# Altium schematic symbol library Transformers.SchLib: 9 symbols
Pins are listed as number, name and electrical type; pins without a type are passive.

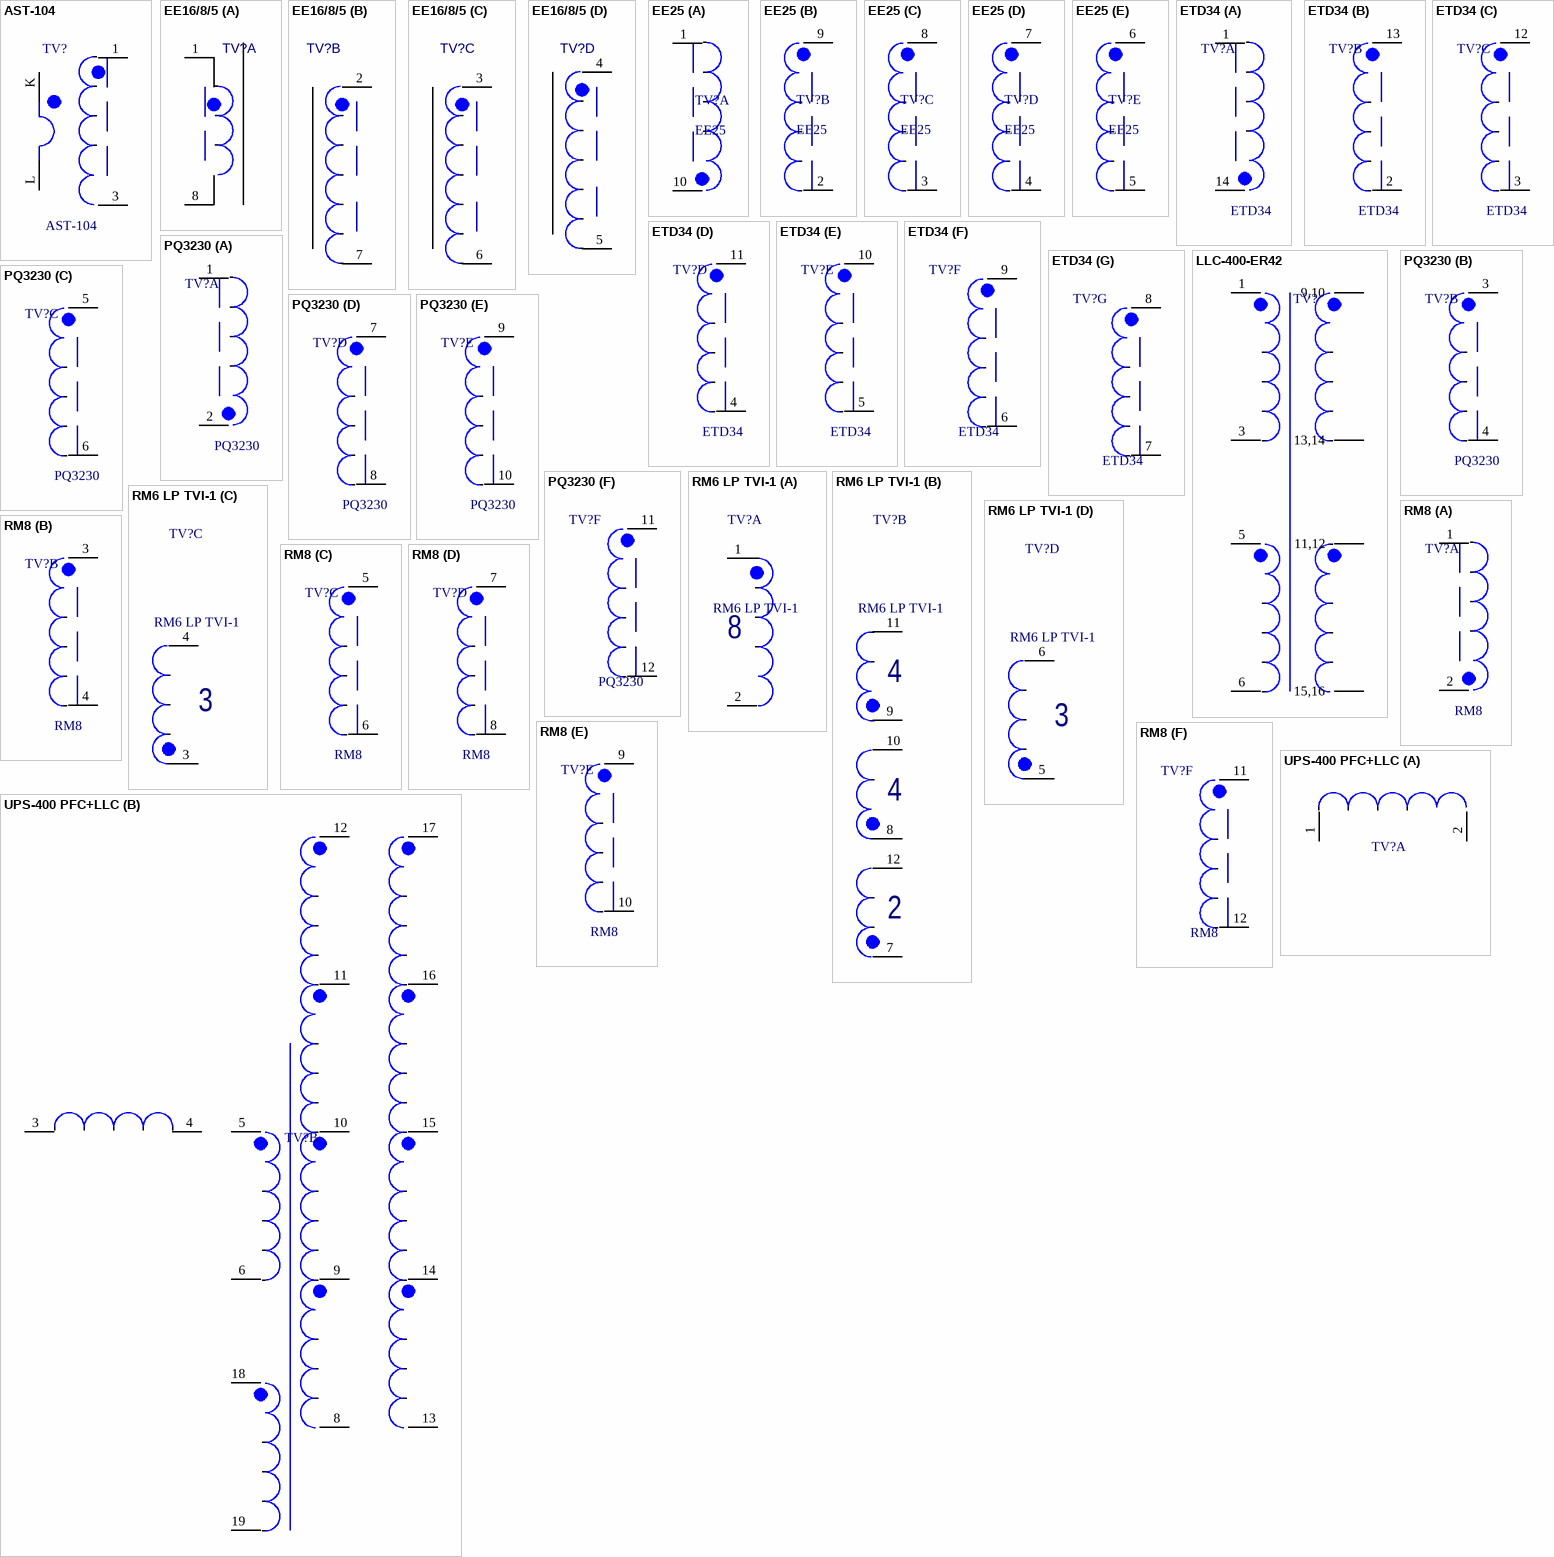
[diagram p0: symbols AST-104 to UPS-400 PFC+LLC]

## AST-104
designator TV?
ComponentDescription: AST-104
footprint AST-104
pins: 1, 3, K, L

## EE16/8/5
designator TV?  (value not drawn)
Value: *; ComponentDescription: EE16/8/5
footprint EE16/8/5
part A pins: 1, 8
part B pins: 2, 7
part C pins: 3, 6
part D pins: 4, 5

## EE25
designator TV?
ComponentDescription: EE25
footprint EE25
part A pins: 1, 10
part B pins: 2, 9
part C pins: 3, 8
part D pins: 4, 7
part E pins: 5, 6

## ETD34
designator TV?
ComponentDescription: ETD34
footprint ETD34_H
part A pins: 1, 14
part B pins: 2, 13
part C pins: 3, 12
part D pins: 4, 11
part E pins: 5, 10
part F pins: 6, 9
part G pins: 7, 8

## LLC-400-ER42
designator TV?
footprint EER42
pins: 1, 3, 5, 6, 9 9,10, 10, 11 11,12, 12, 13 13,14, 14, 15, 16 15,16

## PQ3230
designator TV?
ComponentDescription: PQ3230
footprint PQ3230
part A pins: 1, 2
part B pins: 3, 4
part C pins: 5, 6
part D pins: 7, 8
part E pins: 9, 10
part F pins: 11, 12

## RM6 LP TVI-1
designator TV?
ComponentDescription: RM6 LP TVI-1
footprint RM6 LP TVI-1-24V
footprint RM6 LP TVI-1-24V - FLIPPED
part A pins: 1, 2
part B pins: 7, 8, 9, 10, 11, 12
part C pins: 3, 4
part D pins: 5, 6

## RM8
designator TV?
ComponentDescription: RM8
footprint RM8 mini
part A pins: 1, 2
part B pins: 3, 4
part C pins: 5, 6
part D pins: 7, 8
part E pins: 9, 10
part F pins: 11, 12

## UPS-400 PFC+LLC
designator TV?
footprint UPS-400 PFC+LLC
part A pins: 1, 2
part B pins: 3, 4, 5, 6, 8, 9, 10, 11, 12, 13, 14, 15, 16, 17, 18, 19